# EAGLE library part MM74HC4538M (library Fairchild_By_element14_Batch_1)
Dual Retriggerable Monostable Multivibrator
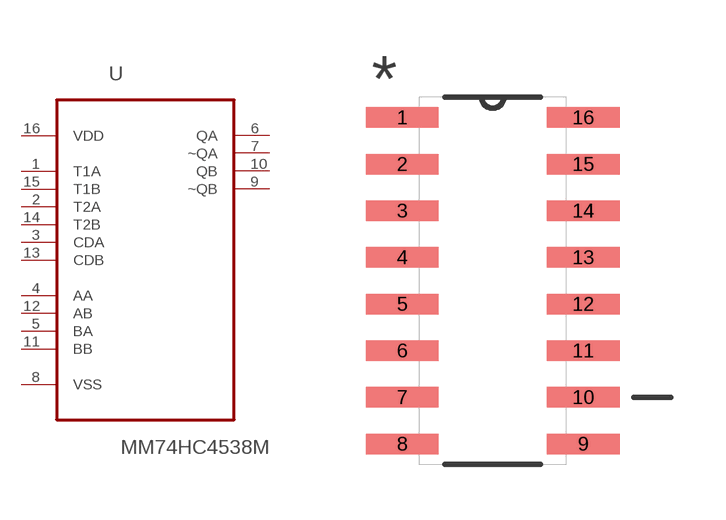
[diagram p291: symbol with the pads of SOIC127P600X175-16N; footprint SOIC127P600X175-16N]

Designator prefix U

## MM74HC4538M (MPN: MM74HC4538M; OC_FARNELL: 1013987; OC_NEWARK: -; PACKAGE: SOIC-16; SUPPLIER: Fairchild)  [SOIC127P600X175-16N]
1  T1A  pas
2  T2A  pas
3  CDA  pas
4  AA  in
5  BA  in
6  QA  out
7  ~QA  out
8  VSS  pwr
9  ~QB  out
10  QB  out
11  BB  in
12  AB  in
13  CDB  pas
14  T2B  pas
15  T1B  pas
16  VDD  pwr

## Footprint SOIC127P600X175-16N (pad centres in mm)
smd 1.981 x 0.559: 1 -2.464,4.445; 2 -2.464,3.175; 3 -2.464,1.905; 4 -2.464,0.635; 5 -2.464,-0.635; 6 -2.464,-1.905; 7 -2.464,-3.175; 8 -2.464,-4.445; 9 2.464,-4.445; 10 2.464,-3.175; 11 2.464,-1.905; 12 2.464,-0.635; 13 2.464,0.635; 14 2.464,1.905; 15 2.464,3.175; 16 2.464,4.445